# Altium footprint library con-weidmueller-sl35.PCBLIB: 184 footprints (part 7 of 12)
Each footprint in its own frame and in the unit in brackets; x right, y up, seen from the top. Pads: shape width x height; smd on the part's side, far side on the other; paste and mask are expansions set on the pad; w line width, h text height; cw(c..) or ccw(c..) is an arc to the next point about the centre after c.
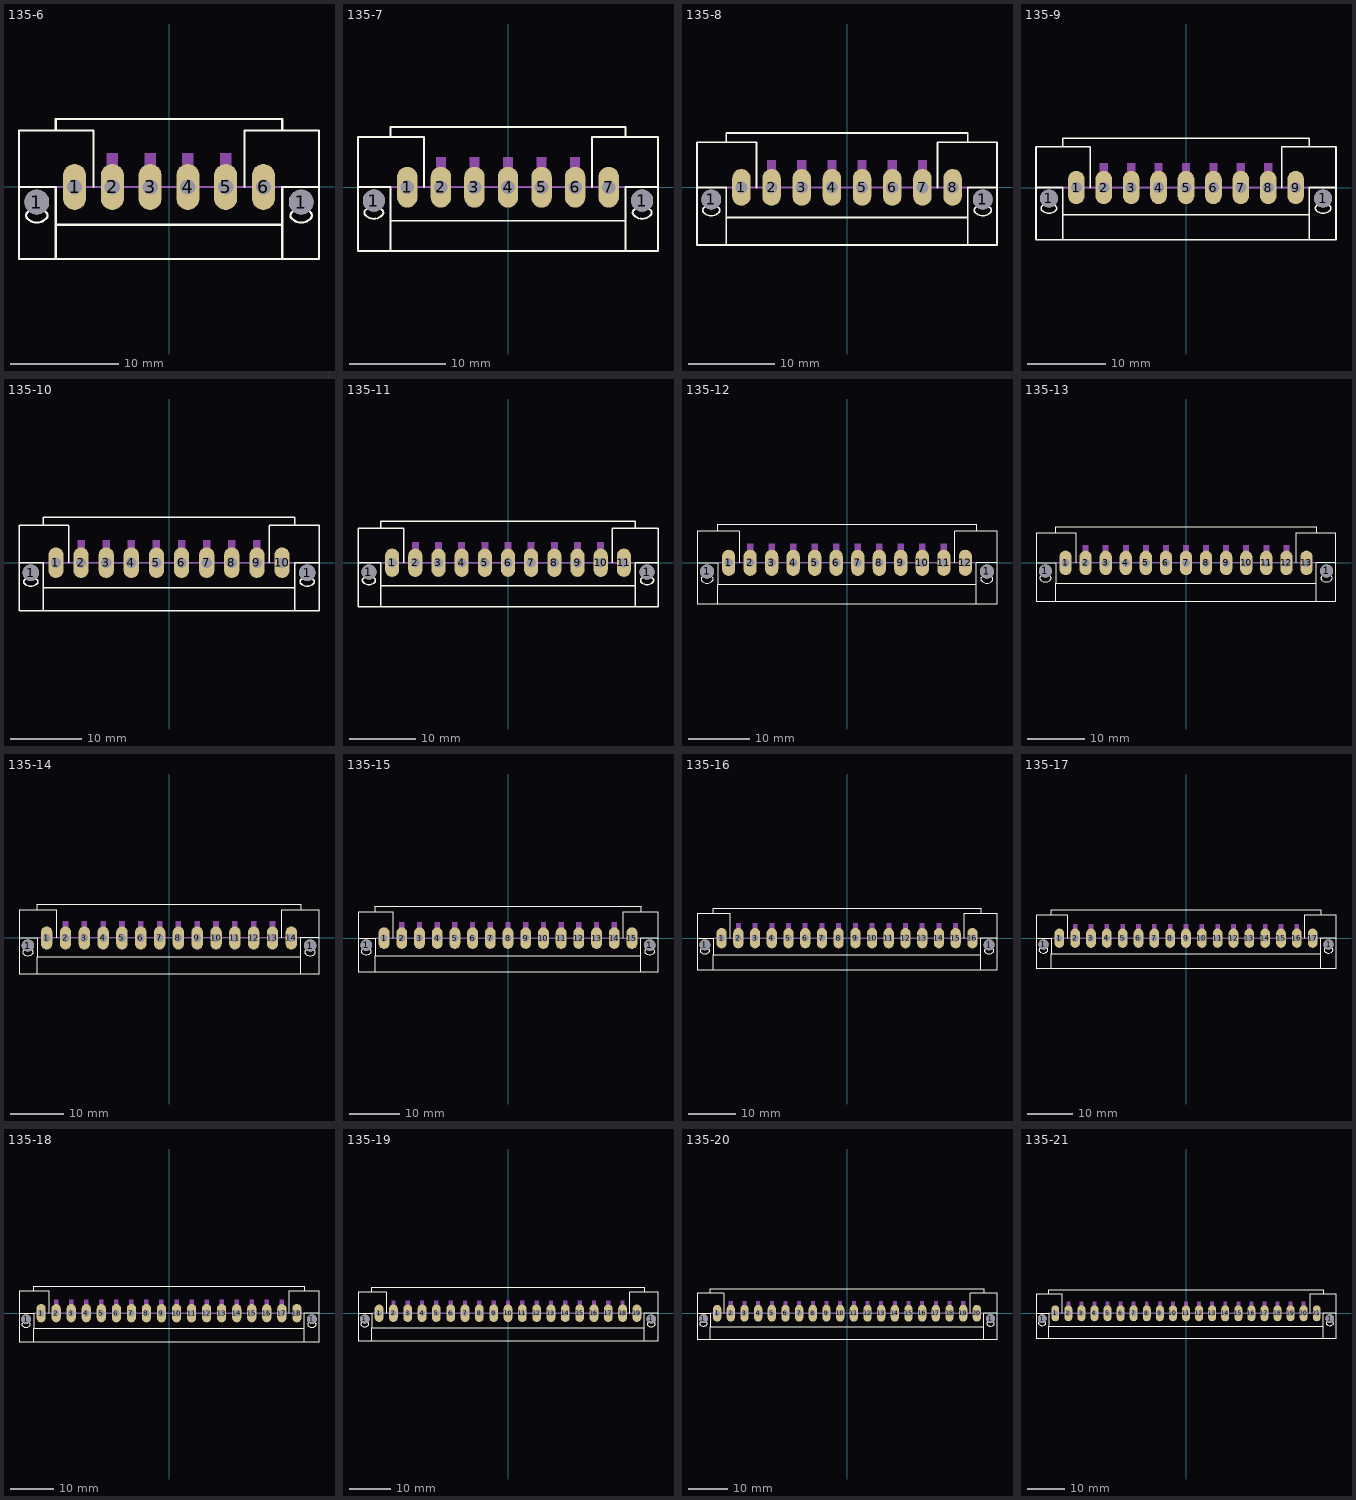
[diagram p6: the footprints below, top view; thin cyan lines are the x and y axes]

## 135-6 [mil]
pads (8):
  round 90.55 hole 90.55: 1(-482.28,-55.12) 1(482.28,-55.12)
  oval 84x168 hole 56: 1(-344.49,0) 2(-206.69,0) 3(-68.9,0) 4(68.9,0) 5(206.69,0) 6(344.49,0)
Top Overlay:
  lines w8: -547.24,204.72 -547.24,0 ; -547.24,205.71 -275.59,205.71 -275.59,204.72 ; -413.39,-261.81 -413.39,-137.8 ; -413.39,208.66 -413.39,248.03 413.39,248.03 413.39,208.66 ; -275.59,0 -275.59,203.74 ; 275.59,0 275.59,203.74 ; 275.59,204.72 275.59,205.71 547.24,205.71 ; 413.39,-261.81 413.39,-137.8 ; 547.24,204.72 547.24,0 ; -547.24,0 -547.24,-262.8 547.24,-262.8 547.24,0 ; -547.24,0 -413.39,0 -413.39,-137.8 ; -413.39,-137.8 413.39,-137.8 ; 413.39,-137.8 413.39,0 547.24,0 ; -515.75,-116.14 cw(c-505.91,-104.33) -515.75,-92.52 cw(c-482.29,-125.98) -448.82,-92.52 cw(c-458.66,-104.33) -448.82,-116.14 cw(c-482.29,-82.67) -515.75,-116.14 ; 448.82,-116.14 cw(c458.66,-104.33) 448.82,-92.52 cw(c482.29,-125.98) 515.75,-92.52 cw(c505.91,-104.33) 515.75,-116.14 cw(c482.29,-82.67) 448.82,-116.14
Mechanical 16:
  rectangle: -227.36,0 -186.02,124.02
  rectangle: -89.57,0 -48.23,124.02
  rectangle: 48.23,0 89.57,124.02
  rectangle: 186.02,0 227.36,124.02
  lines w8: -413.39,0 413.39,0

## 135-7 [mil]
pads (9):
  round 90.55 hole 90.55: 1(-551.18,-55.12) 1(551.18,-55.12)
  oval 84x168 hole 56: 1(-413.39,0) 2(-275.59,0) 3(-137.8,0) 4(0,0) 5(137.8,0) 6(275.59,0) 7(413.39,0)
Top Overlay:
  lines w8: -616.14,204.72 -616.14,0 ; -616.14,205.71 -344.49,205.71 -344.49,204.72 ; -482.28,-261.81 -482.28,-137.8 ; -482.28,208.66 -482.28,248.03 482.28,248.03 482.28,208.66 ; -344.49,0 -344.49,203.74 ; 344.49,0 344.49,203.74 ; 344.49,204.72 344.49,205.71 616.14,205.71 ; 482.28,-261.81 482.28,-137.8 ; 616.14,204.72 616.14,0 ; -616.14,0 -616.14,-262.8 616.14,-262.8 616.14,0 ; -616.14,0 -482.28,0 -482.28,-137.8 ; -482.28,-137.8 482.28,-137.8 ; 482.28,-137.8 482.28,0 616.14,0 ; -584.65,-116.14 cw(c-574.81,-104.33) -584.65,-92.52 cw(c-551.18,-125.98) -517.72,-92.52 cw(c-527.56,-104.33) -517.72,-116.14 cw(c-551.18,-82.67) -584.65,-116.14 ; 517.72,-116.14 cw(c527.56,-104.33) 517.72,-92.52 cw(c551.18,-125.98) 584.65,-92.52 cw(c574.81,-104.33) 584.65,-116.14 cw(c551.18,-82.67) 517.72,-116.14
Mechanical 16:
  rectangle: -296.26,0 -254.92,124.02
  rectangle: -158.46,0 -117.13,124.02
  rectangle: -20.67,0 20.67,124.02
  rectangle: 117.13,0 158.46,124.02
  rectangle: 254.92,0 296.26,124.02
  lines w8: -482.28,0 482.28,0

## 135-8 [mil]
pads (10):
  round 90.55 hole 90.55: 1(-620.08,-55.12) 1(620.08,-55.12)
  oval 84x168 hole 56: 1(-482.28,0) 2(-344.49,0) 3(-206.69,0) 4(-68.9,0) 5(68.9,0) 6(206.69,0) 7(344.49,0) 8(482.28,0)
Top Overlay:
  lines w8: -685.04,204.72 -685.04,0 ; -685.04,205.71 -413.39,205.71 -413.39,204.72 ; -551.18,-261.81 -551.18,-137.8 ; -551.18,208.66 -551.18,248.03 551.18,248.03 551.18,208.66 ; -413.39,0 -413.39,203.74 ; 413.39,0 413.39,203.74 ; 413.39,204.72 413.39,205.71 685.04,205.71 ; 551.18,-261.81 551.18,-137.8 ; 685.04,204.72 685.04,0 ; -685.04,0 -685.04,-262.8 685.04,-262.8 685.04,0 ; -685.04,0 -551.18,0 -551.18,-137.8 ; -551.18,-137.8 551.18,-137.8 ; 551.18,-137.8 551.18,0 685.04,0 ; -653.54,-116.14 cw(c-643.7,-104.33) -653.54,-92.52 cw(c-620.08,-125.98) -586.61,-92.52 cw(c-596.45,-104.33) -586.61,-116.14 cw(c-620.08,-82.67) -653.54,-116.14 ; 586.61,-116.14 cw(c596.45,-104.33) 586.61,-92.52 cw(c620.08,-125.98) 653.54,-92.52 cw(c643.7,-104.33) 653.54,-116.14 cw(c620.08,-82.67) 586.61,-116.14
Mechanical 16:
  rectangle: -365.16,0 -323.82,124.02
  rectangle: -227.36,0 -186.02,124.02
  rectangle: -89.57,0 -48.23,124.02
  rectangle: 48.23,0 89.57,124.02
  rectangle: 186.02,0 227.36,124.02
  rectangle: 323.82,0 365.16,124.02
  lines w8: -551.18,0 551.18,0

## 135-9 [mil]
pads (11):
  round 90.55 hole 90.55: 1(-688.98,-55.12) 1(688.98,-55.12)
  oval 84x168 hole 56: 1(-551.18,0) 2(-413.39,0) 3(-275.59,0) 4(-137.8,0) 5(0,0) 6(137.8,0) 7(275.59,0) 8(413.39,0) 9(551.18,0)
Top Overlay:
  lines w8: -753.94,204.72 -753.94,0 ; -753.94,205.71 -482.28,205.71 -482.28,204.72 ; -620.08,-261.81 -620.08,-137.8 ; -620.08,208.66 -620.08,248.03 620.08,248.03 620.08,208.66 ; -482.28,0 -482.28,203.74 ; 482.28,0 482.28,203.74 ; 482.28,204.72 482.28,205.71 753.94,205.71 ; 620.08,-261.81 620.08,-137.8 ; 753.94,204.72 753.94,0 ; -753.94,0 -753.94,-262.8 753.94,-262.8 753.94,0 ; -753.94,0 -620.08,0 -620.08,-137.8 ; -620.08,-137.8 620.08,-137.8 ; 620.08,-137.8 620.08,0 753.94,0 ; -722.44,-116.14 cw(c-712.6,-104.33) -722.44,-92.52 cw(c-688.98,-125.98) -655.51,-92.52 cw(c-665.35,-104.33) -655.51,-116.14 cw(c-688.98,-82.67) -722.44,-116.14 ; 655.51,-116.14 cw(c665.35,-104.33) 655.51,-92.52 cw(c688.98,-125.98) 722.44,-92.52 cw(c712.6,-104.33) 722.44,-116.14 cw(c688.98,-82.67) 655.51,-116.14
Mechanical 16:
  rectangle: -434.06,0 -392.72,124.02
  rectangle: -296.26,0 -254.92,124.02
  rectangle: -158.46,0 -117.13,124.02
  rectangle: -20.67,0 20.67,124.02
  rectangle: 117.13,0 158.46,124.02
  rectangle: 254.92,0 296.26,124.02
  rectangle: 392.72,0 434.06,124.02
  lines w8: -620.08,0 620.08,0

## 135-10 [mil]
pads (12):
  round 90.55 hole 90.55: 1(-757.87,-55.12) 1(757.87,-55.12)
  oval 84x168 hole 56: 1(-620.08,0) 2(-482.28,0) 3(-344.49,0) 4(-206.69,0) 5(-68.9,0) 6(68.9,0) 7(206.69,0) 8(344.49,0) 9(482.28,0) 10(620.08,0)
Top Overlay:
  lines w8: -822.83,204.72 -822.83,0 ; -822.83,205.71 -551.18,205.71 -551.18,204.72 ; -688.98,-261.81 -688.98,-137.8 ; -688.98,208.66 -688.98,248.03 688.98,248.03 688.98,208.66 ; -551.18,0 -551.18,203.74 ; 551.18,0 551.18,203.74 ; 551.18,204.72 551.18,205.71 822.83,205.71 ; 688.98,-261.81 688.98,-137.8 ; 822.83,204.72 822.83,0 ; -822.83,0 -822.83,-262.8 822.83,-262.8 822.83,0 ; -822.83,0 -688.98,0 -688.98,-137.8 ; -688.98,-137.8 688.98,-137.8 ; 688.98,-137.8 688.98,0 822.83,0 ; -791.34,-116.14 cw(c-781.5,-104.33) -791.34,-92.52 cw(c-757.88,-125.98) -724.41,-92.52 cw(c-734.25,-104.33) -724.41,-116.14 cw(c-757.88,-82.67) -791.34,-116.14 ; 724.41,-116.14 cw(c734.25,-104.33) 724.41,-92.52 cw(c757.88,-125.98) 791.34,-92.52 cw(c781.5,-104.33) 791.34,-116.14 cw(c757.88,-82.67) 724.41,-116.14
Mechanical 16:
  rectangle: -502.95,0 -461.61,124.02
  rectangle: -365.16,0 -323.82,124.02
  rectangle: -227.36,0 -186.02,124.02
  rectangle: -89.57,0 -48.23,124.02
  rectangle: 48.23,0 89.57,124.02
  rectangle: 186.02,0 227.36,124.02
  rectangle: 323.82,0 365.16,124.02
  rectangle: 461.61,0 502.95,124.02
  lines w8: -688.98,0 688.98,0

## 135-11 [mil]
pads (13):
  round 90.55 hole 90.55: 1(-826.77,-55.12) 1(826.77,-55.12)
  oval 84x168 hole 56: 1(-688.98,0) 2(-551.18,0) 3(-413.39,0) 4(-275.59,0) 5(-137.8,0) 6(0,0) 7(137.8,0) 8(275.59,0) 9(413.39,0) 10(551.18,0) 11(688.98,0)
Top Overlay:
  lines w8: -891.73,204.72 -891.73,0 ; -891.73,205.71 -620.08,205.71 -620.08,204.72 ; -757.87,-261.81 -757.87,-137.8 ; -757.87,208.66 -757.87,248.03 757.87,248.03 757.87,208.66 ; -620.08,0 -620.08,203.74 ; 620.08,0 620.08,203.74 ; 620.08,204.72 620.08,205.71 891.73,205.71 ; 757.87,-261.81 757.87,-137.8 ; 891.73,204.72 891.73,0 ; -891.73,0 -891.73,-262.8 891.73,-262.8 891.73,0 ; -891.73,0 -757.87,0 -757.87,-137.8 ; -757.87,-137.8 757.87,-137.8 ; 757.87,-137.8 757.87,0 891.73,0 ; -860.24,-116.14 cw(c-850.4,-104.33) -860.24,-92.52 cw(c-826.77,-125.98) -793.31,-92.52 cw(c-803.15,-104.33) -793.31,-116.14 cw(c-826.77,-82.67) -860.24,-116.14 ; 793.31,-116.14 cw(c803.15,-104.33) 793.31,-92.52 cw(c826.77,-125.98) 860.24,-92.52 cw(c850.4,-104.33) 860.24,-116.14 cw(c826.77,-82.67) 793.31,-116.14
Mechanical 16:
  rectangle: -571.85,0 -530.51,124.02
  rectangle: -434.06,0 -392.72,124.02
  rectangle: -296.26,0 -254.92,124.02
  rectangle: -158.46,0 -117.13,124.02
  rectangle: -20.67,0 20.67,124.02
  rectangle: 117.13,0 158.46,124.02
  rectangle: 254.92,0 296.26,124.02
  rectangle: 392.72,0 434.06,124.02
  rectangle: 530.51,0 571.85,124.02
  lines w8: -757.87,0 757.87,0

## 135-12 [mil]
pads (14):
  round 90.55 hole 90.55: 1(-895.67,-55.12) 1(895.67,-55.12)
  oval 84x168 hole 56: 1(-757.87,0) 2(-620.08,0) 3(-482.28,0) 4(-344.49,0) 5(-206.69,0) 6(-68.9,0) 7(68.9,0) 8(206.69,0) 9(344.49,0) 10(482.28,0) 11(620.08,0) 12(757.87,0)
Top Overlay:
  lines w8: -960.63,204.72 -960.63,0 ; -960.63,205.71 -688.98,205.71 -688.98,204.72 ; -826.77,-261.81 -826.77,-137.8 ; -826.77,208.66 -826.77,248.03 826.77,248.03 826.77,208.66 ; -688.98,0 -688.98,203.74 ; 688.98,0 688.98,203.74 ; 688.98,204.72 688.98,205.71 960.63,205.71 ; 826.77,-261.81 826.77,-137.8 ; 960.63,204.72 960.63,0 ; -960.63,0 -960.63,-262.8 960.63,-262.8 960.63,0 ; -960.63,0 -826.77,0 -826.77,-137.8 ; -826.77,-137.8 826.77,-137.8 ; 826.77,-137.8 826.77,0 960.63,0 ; -929.13,-116.14 cw(c-919.29,-104.33) -929.13,-92.52 cw(c-895.66,-125.98) -862.2,-92.52 cw(c-872.04,-104.33) -862.2,-116.14 cw(c-895.66,-82.67) -929.13,-116.14 ; 862.2,-116.14 cw(c872.04,-104.33) 862.2,-92.52 cw(c895.66,-125.98) 929.13,-92.52 cw(c919.29,-104.33) 929.13,-116.14 cw(c895.66,-82.67) 862.2,-116.14
Mechanical 16:
  rectangle: -640.75,0 -599.41,124.02
  rectangle: -502.95,0 -461.61,124.02
  rectangle: -365.16,0 -323.82,124.02
  rectangle: -227.36,0 -186.02,124.02
  rectangle: -89.57,0 -48.23,124.02
  rectangle: 48.23,0 89.57,124.02
  rectangle: 186.02,0 227.36,124.02
  rectangle: 323.82,0 365.16,124.02
  rectangle: 461.61,0 502.95,124.02
  rectangle: 599.41,0 640.75,124.02
  lines w8: -826.77,0 826.77,0

## 135-13 [mil]
pads (15):
  round 90.55 hole 90.55: 1(-964.57,-55.12) 1(964.57,-55.12)
  oval 84x168 hole 56: 1(-826.77,0) 2(-688.98,0) 3(-551.18,0) 4(-413.39,0) 5(-275.59,0) 6(-137.8,0) 7(0,0) 8(137.8,0) 9(275.59,0) 10(413.39,0) 11(551.18,0) 12(688.98,0) 13(826.77,0)
Top Overlay:
  lines w8: -1029.53,204.72 -1029.53,0 ; -1029.53,205.71 -757.87,205.71 -757.87,204.72 ; -895.67,-261.81 -895.67,-137.8 ; -895.67,208.66 -895.67,248.03 895.67,248.03 895.67,208.66 ; -757.87,0 -757.87,203.74 ; 757.87,0 757.87,203.74 ; 757.87,204.72 757.87,205.71 1029.53,205.71 ; 895.67,-261.81 895.67,-137.8 ; 1029.53,204.72 1029.53,0 ; -1029.53,0 -1029.53,-262.8 1029.53,-262.8 1029.53,0 ; -1029.53,0 -895.67,0 -895.67,-137.8 ; -895.67,-137.8 895.67,-137.8 ; 895.67,-137.8 895.67,0 1029.53,0 ; -998.03,-116.14 cw(c-988.19,-104.33) -998.03,-92.52 cw(c-964.57,-125.98) -931.1,-92.52 cw(c-940.94,-104.33) -931.1,-116.14 cw(c-964.57,-82.67) -998.03,-116.14 ; 931.1,-116.14 cw(c940.94,-104.33) 931.1,-92.52 cw(c964.57,-125.98) 998.03,-92.52 cw(c988.19,-104.33) 998.03,-116.14 cw(c964.57,-82.67) 931.1,-116.14
Mechanical 16:
  rectangle: -709.65,0 -668.31,124.02
  rectangle: -571.85,0 -530.51,124.02
  rectangle: -434.06,0 -392.72,124.02
  rectangle: -296.26,0 -254.92,124.02
  rectangle: -158.46,0 -117.13,124.02
  rectangle: -20.67,0 20.67,124.02
  rectangle: 117.13,0 158.46,124.02
  rectangle: 254.92,0 296.26,124.02
  rectangle: 392.72,0 434.06,124.02
  rectangle: 530.51,0 571.85,124.02
  rectangle: 668.31,0 709.65,124.02
  lines w8: -895.67,0 895.67,0

## 135-14 [mil]
pads (16):
  round 90.55 hole 90.55: 1(-1033.46,-55.12) 1(1033.46,-55.12)
  oval 84x168 hole 56: 1(-895.67,0) 2(-757.87,0) 3(-620.08,0) 4(-482.28,0) 5(-344.49,0) 6(-206.69,0) 7(-68.9,0) 8(68.9,0) 9(206.69,0) 10(344.49,0) 11(482.28,0) 12(620.08,0) 13(757.87,0) 14(895.67,0)
Top Overlay:
  lines w8: -1098.43,204.72 -1098.43,0 ; -1098.43,205.71 -826.77,205.71 -826.77,204.72 ; -964.57,-261.81 -964.57,-137.8 ; -964.57,208.66 -964.57,248.03 964.57,248.03 964.57,208.66 ; -826.77,0 -826.77,203.74 ; 826.77,0 826.77,203.74 ; 826.77,204.72 826.77,205.71 1098.43,205.71 ; 964.57,-261.81 964.57,-137.8 ; 1098.43,204.72 1098.43,0 ; -1098.43,0 -1098.43,-262.8 1098.43,-262.8 1098.43,0 ; -1098.43,0 -964.57,0 -964.57,-137.8 ; -964.57,-137.8 964.57,-137.8 ; 964.57,-137.8 964.57,0 1098.43,0 ; -1066.93,-116.14 cw(c-1057.09,-104.33) -1066.93,-92.52 cw(c-1033.46,-125.98) -1000,-92.52 cw(c-1009.84,-104.33) -1000,-116.14 cw(c-1033.46,-82.67) -1066.93,-116.14 ; 1000,-116.14 cw(c1009.84,-104.33) 1000,-92.52 cw(c1033.46,-125.98) 1066.93,-92.52 cw(c1057.09,-104.33) 1066.93,-116.14 cw(c1033.46,-82.67) 1000,-116.14
Mechanical 16:
  rectangle: -778.54,0 -737.2,124.02
  rectangle: -640.75,0 -599.41,124.02
  rectangle: -502.95,0 -461.61,124.02
  rectangle: -365.16,0 -323.82,124.02
  rectangle: -227.36,0 -186.02,124.02
  rectangle: -89.57,0 -48.23,124.02
  rectangle: 48.23,0 89.57,124.02
  rectangle: 186.02,0 227.36,124.02
  rectangle: 323.82,0 365.16,124.02
  rectangle: 461.61,0 502.95,124.02
  rectangle: 599.41,0 640.75,124.02
  rectangle: 737.2,0 778.54,124.02
  lines w8: -964.57,0 964.57,0

## 135-15 [mil]
pads (17):
  round 90.55 hole 90.55: 1(-1102.36,-55.12) 1(1102.36,-55.12)
  oval 84x168 hole 56: 1(-964.57,0) 2(-826.77,0) 3(-688.98,0) 4(-551.18,0) 5(-413.39,0) 6(-275.59,0) 7(-137.8,0) 8(0,0) 9(137.8,0) 10(275.59,0) 11(413.39,0) 12(551.18,0) 13(688.98,0) 14(826.77,0) 15(964.57,0)
Top Overlay:
  lines w8: -1167.32,204.72 -1167.32,0 ; -1167.32,205.71 -895.67,205.71 -895.67,204.72 ; -1033.46,-261.81 -1033.46,-137.8 ; -1033.46,208.66 -1033.46,248.03 1033.46,248.03 1033.46,208.66 ; -895.67,0 -895.67,203.74 ; 895.67,0 895.67,203.74 ; 895.67,204.72 895.67,205.71 1167.32,205.71 ; 1033.46,-261.81 1033.46,-137.8 ; 1167.32,204.72 1167.32,0 ; -1167.32,0 -1167.32,-262.8 1167.32,-262.8 1167.32,0 ; -1167.32,0 -1033.46,0 -1033.46,-137.8 ; -1033.46,-137.8 1033.46,-137.8 ; 1033.46,-137.8 1033.46,0 1167.32,0 ; -1135.83,-116.14 cw(c-1125.99,-104.33) -1135.83,-92.52 cw(c-1102.37,-125.98) -1068.9,-92.52 cw(c-1078.74,-104.33) -1068.9,-116.14 cw(c-1102.37,-82.67) -1135.83,-116.14 ; 1068.9,-116.14 cw(c1078.74,-104.33) 1068.9,-92.52 cw(c1102.37,-125.98) 1135.83,-92.52 cw(c1125.99,-104.33) 1135.83,-116.14 cw(c1102.37,-82.67) 1068.9,-116.14
Mechanical 16:
  rectangle: -847.44,0 -806.1,124.02
  rectangle: -709.65,0 -668.31,124.02
  rectangle: -571.85,0 -530.51,124.02
  rectangle: -434.06,0 -392.72,124.02
  rectangle: -296.26,0 -254.92,124.02
  rectangle: -158.46,0 -117.13,124.02
  rectangle: -20.67,0 20.67,124.02
  rectangle: 117.13,0 158.46,124.02
  rectangle: 254.92,0 296.26,124.02
  rectangle: 392.72,0 434.06,124.02
  rectangle: 530.51,0 571.85,124.02
  rectangle: 668.31,0 709.65,124.02
  rectangle: 806.1,0 847.44,124.02
  lines w8: -1033.46,0 1033.46,0

## 135-16 [mil]
pads (18):
  round 90.55 hole 90.55: 1(-1171.26,-55.12) 1(1171.26,-55.12)
  oval 84x168 hole 56: 1(-1033.46,0) 2(-895.67,0) 3(-757.87,0) 4(-620.08,0) 5(-482.28,0) 6(-344.49,0) 7(-206.69,0) 8(-68.9,0) 9(68.9,0) 10(206.69,0) 11(344.49,0) 12(482.28,0) 13(620.08,0) 14(757.87,0) 15(895.67,0) 16(1033.46,0)
Top Overlay:
  lines w8: -1236.22,204.72 -1236.22,0 ; -1236.22,205.71 -964.57,205.71 -964.57,204.72 ; -1102.36,-261.81 -1102.36,-137.8 ; -1102.36,208.66 -1102.36,248.03 1102.36,248.03 1102.36,208.66 ; -964.57,0 -964.57,203.74 ; 964.57,0 964.57,203.74 ; 964.57,204.72 964.57,205.71 1236.22,205.71 ; 1102.36,-261.81 1102.36,-137.8 ; 1236.22,204.72 1236.22,0 ; -1236.22,0 -1236.22,-262.8 1236.22,-262.8 1236.22,0 ; -1236.22,0 -1102.36,0 -1102.36,-137.8 ; -1102.36,-137.8 1102.36,-137.8 ; 1102.36,-137.8 1102.36,0 1236.22,0 ; -1204.72,-116.14 cw(c-1194.88,-104.33) -1204.72,-92.52 cw(c-1171.26,-125.98) -1137.8,-92.52 cw(c-1147.64,-104.33) -1137.8,-116.14 cw(c-1171.26,-82.68) -1204.72,-116.14 ; 1137.8,-116.14 cw(c1147.64,-104.33) 1137.8,-92.52 cw(c1171.26,-125.98) 1204.72,-92.52 cw(c1194.88,-104.33) 1204.72,-116.14 cw(c1171.26,-82.68) 1137.8,-116.14
Mechanical 16:
  rectangle: -916.34,0 -875,124.02
  rectangle: -778.54,0 -737.2,124.02
  rectangle: -640.75,0 -599.41,124.02
  rectangle: -502.95,0 -461.61,124.02
  rectangle: -365.16,0 -323.82,124.02
  rectangle: -227.36,0 -186.02,124.02
  rectangle: -89.57,0 -48.23,124.02
  rectangle: 48.23,0 89.57,124.02
  rectangle: 186.02,0 227.36,124.02
  rectangle: 323.82,0 365.16,124.02
  rectangle: 461.61,0 502.95,124.02
  rectangle: 599.41,0 640.75,124.02
  rectangle: 737.2,0 778.54,124.02
  rectangle: 875,0 916.34,124.02
  lines w8: -1102.36,0 1102.36,0

## 135-17 [mil]
pads (19):
  round 90.55 hole 90.55: 1(-1240.16,-55.12) 1(1240.16,-55.12)
  oval 84x168 hole 56: 1(-1102.36,0) 2(-964.57,0) 3(-826.77,0) 4(-688.98,0) 5(-551.18,0) 6(-413.39,0) 7(-275.59,0) 8(-137.8,0) 9(0,0) 10(137.8,0) 11(275.59,0) 12(413.39,0) 13(551.18,0) 14(688.98,0) 15(826.77,0) 16(964.57,0) 17(1102.36,0)
Top Overlay:
  lines w8: -1305.12,204.72 -1305.12,0 ; -1305.12,205.71 -1033.46,205.71 -1033.46,204.72 ; -1171.26,-261.81 -1171.26,-137.8 ; -1171.26,208.66 -1171.26,248.03 1171.26,248.03 1171.26,208.66 ; -1033.46,0 -1033.46,203.74 ; 1033.46,0 1033.46,203.74 ; 1033.46,204.72 1033.46,205.71 1305.12,205.71 ; 1171.26,-261.81 1171.26,-137.8 ; 1305.12,204.72 1305.12,0 ; -1305.12,0 -1305.12,-262.8 1305.12,-262.8 1305.12,0 ; -1305.12,0 -1171.26,0 -1171.26,-137.8 ; -1171.26,-137.8 1171.26,-137.8 ; 1171.26,-137.8 1171.26,0 1305.12,0 ; -1273.62,-116.14 cw(c-1263.78,-104.33) -1273.62,-92.52 cw(c-1240.15,-125.98) -1206.69,-92.52 cw(c-1216.53,-104.33) -1206.69,-116.14 cw(c-1240.15,-82.67) -1273.62,-116.14 ; 1206.69,-116.14 cw(c1216.53,-104.33) 1206.69,-92.52 cw(c1240.15,-125.98) 1273.62,-92.52 cw(c1263.78,-104.33) 1273.62,-116.14 cw(c1240.15,-82.67) 1206.69,-116.14
Mechanical 16:
  rectangle: -985.24,0 -943.9,124.02
  rectangle: -847.44,0 -806.1,124.02
  rectangle: -709.65,0 -668.31,124.02
  rectangle: -571.85,0 -530.51,124.02
  rectangle: -434.06,0 -392.72,124.02
  rectangle: -296.26,0 -254.92,124.02
  rectangle: -158.46,0 -117.13,124.02
  rectangle: -20.67,0 20.67,124.02
  rectangle: 117.13,0 158.46,124.02
  rectangle: 254.92,0 296.26,124.02
  rectangle: 392.72,0 434.06,124.02
  rectangle: 530.51,0 571.85,124.02
  rectangle: 668.31,0 709.65,124.02
  rectangle: 806.1,0 847.44,124.02
  rectangle: 943.9,0 985.24,124.02
  lines w8: -1171.26,0 1171.26,0

## 135-18 [mil]
pads (20):
  round 90.55 hole 90.55: 1(-1309.06,-55.12) 1(1309.06,-55.12)
  oval 84x168 hole 56: 1(-1171.26,0) 2(-1033.46,0) 3(-895.67,0) 4(-757.87,0) 5(-620.08,0) 6(-482.28,0) 7(-344.49,0) 8(-206.69,0) 9(-68.9,0) 10(68.9,0) 11(206.69,0) 12(344.49,0) 13(482.28,0) 14(620.08,0) 15(757.87,0) 16(895.67,0) 17(1033.46,0) 18(1171.26,0)
Top Overlay:
  lines w8: -1374.02,204.72 -1374.02,0 ; -1374.02,205.71 -1102.36,205.71 -1102.36,204.72 ; -1240.16,-261.81 -1240.16,-137.8 ; -1240.16,208.66 -1240.16,248.03 1240.16,248.03 1240.16,208.66 ; -1102.36,0 -1102.36,203.74 ; 1102.36,0 1102.36,203.74 ; 1102.36,204.72 1102.36,205.71 1374.02,205.71 ; 1240.16,-261.81 1240.16,-137.8 ; 1374.02,204.72 1374.02,0 ; -1374.02,0 -1374.02,-262.8 1374.02,-262.8 1374.02,0 ; -1374.02,0 -1240.16,0 -1240.16,-137.8 ; -1240.16,-137.8 1240.16,-137.8 ; 1240.16,-137.8 1240.16,0 1374.02,0 ; -1342.52,-116.14 cw(c-1332.68,-104.33) -1342.52,-92.52 cw(c-1309.06,-125.98) -1275.59,-92.52 cw(c-1285.43,-104.33) -1275.59,-116.14 cw(c-1309.06,-82.67) -1342.52,-116.14 ; 1275.59,-116.14 cw(c1285.43,-104.33) 1275.59,-92.52 cw(c1309.06,-125.98) 1342.52,-92.52 cw(c1332.68,-104.33) 1342.52,-116.14 cw(c1309.06,-82.67) 1275.59,-116.14
Mechanical 16:
  rectangle: -1054.13,0 -1012.8,124.02
  rectangle: -916.34,0 -875,124.02
  rectangle: -778.54,0 -737.2,124.02
  rectangle: -640.75,0 -599.41,124.02
  rectangle: -502.95,0 -461.61,124.02
  rectangle: -365.16,0 -323.82,124.02
  rectangle: -227.36,0 -186.02,124.02
  rectangle: -89.57,0 -48.23,124.02
  rectangle: 48.23,0 89.57,124.02
  rectangle: 186.02,0 227.36,124.02
  rectangle: 323.82,0 365.16,124.02
  rectangle: 461.61,0 502.95,124.02
  rectangle: 599.41,0 640.75,124.02
  rectangle: 737.2,0 778.54,124.02
  rectangle: 875,0 916.34,124.02
  rectangle: 1012.8,0 1054.13,124.02
  lines w8: -1240.16,0 1240.16,0

## 135-19 [mil]
pads (21):
  round 90.55 hole 90.55: 1(-1377.95,-55.12) 1(1377.95,-55.12)
  oval 84x168 hole 56: 1(-1240.16,0) 2(-1102.36,0) 3(-964.57,0) 4(-826.77,0) 5(-688.98,0) 6(-551.18,0) 7(-413.39,0) 8(-275.59,0) 9(-137.8,0) 10(0,0) 11(137.8,0) 12(275.59,0) 13(413.39,0) 14(551.18,0) 15(688.98,0) 16(826.77,0) 17(964.57,0) 18(1102.36,0) 19(1240.16,0)
Top Overlay:
  lines w8: -1442.91,204.72 -1442.91,0 ; -1442.91,205.71 -1171.26,205.71 -1171.26,204.72 ; -1309.06,-261.81 -1309.06,-137.8 ; -1309.06,208.66 -1309.06,248.03 1309.06,248.03 1309.06,208.66 ; -1171.26,0 -1171.26,203.74 ; 1171.26,0 1171.26,203.74 ; 1171.26,204.72 1171.26,205.71 1442.91,205.71 ; 1309.06,-261.81 1309.06,-137.8 ; 1442.91,204.72 1442.91,0 ; -1442.91,0 -1442.91,-262.8 1442.91,-262.8 1442.91,0 ; -1442.91,0 -1309.06,0 -1309.06,-137.8 ; -1309.06,-137.8 1309.06,-137.8 ; 1309.06,-137.8 1309.06,0 1442.91,0 ; -1411.42,-116.14 cw(c-1401.58,-104.33) -1411.42,-92.52 cw(c-1377.95,-125.98) -1344.49,-92.52 cw(c-1354.33,-104.33) -1344.49,-116.14 cw(c-1377.95,-82.67) -1411.42,-116.14 ; 1344.49,-116.14 cw(c1354.33,-104.33) 1344.49,-92.52 cw(c1377.95,-125.98) 1411.42,-92.52 cw(c1401.58,-104.33) 1411.42,-116.14 cw(c1377.95,-82.67) 1344.49,-116.14
Mechanical 16:
  rectangle: -1123.03,0 -1081.69,124.02
  rectangle: -985.24,0 -943.9,124.02
  rectangle: -847.44,0 -806.1,124.02
  rectangle: -709.65,0 -668.31,124.02
  rectangle: -571.85,0 -530.51,124.02
  rectangle: -434.06,0 -392.72,124.02
  rectangle: -296.26,0 -254.92,124.02
  rectangle: -158.46,0 -117.13,124.02
  rectangle: -20.67,0 20.67,124.02
  rectangle: 117.13,0 158.46,124.02
  rectangle: 254.92,0 296.26,124.02
  rectangle: 392.72,0 434.06,124.02
  rectangle: 530.51,0 571.85,124.02
  rectangle: 668.31,0 709.65,124.02
  rectangle: 806.1,0 847.44,124.02
  rectangle: 943.9,0 985.24,124.02
  rectangle: 1081.69,0 1123.03,124.02
  lines w8: -1309.06,0 1309.06,0

## 135-20 [mil]
pads (22):
  round 90.55 hole 90.55: 1(-1446.85,-55.12) 1(1446.85,-55.12)
  oval 84x168 hole 56: 1(-1309.06,0) 2(-1171.26,0) 3(-1033.46,0) 4(-895.67,0) 5(-757.87,0) 6(-620.08,0) 7(-482.28,0) 8(-344.49,0) 9(-206.69,0) 10(-68.9,0) 11(68.9,0) 12(206.69,0) 13(344.49,0) 14(482.28,0) 15(620.08,0) 16(757.87,0) 17(895.67,0) 18(1033.46,0) 19(1171.26,0) 20(1309.06,0)
Top Overlay:
  lines w8: -1511.81,204.72 -1511.81,0 ; -1511.81,205.71 -1240.16,205.71 -1240.16,204.72 ; -1377.95,-261.81 -1377.95,-137.8 ; -1377.95,208.66 -1377.95,248.03 1377.95,248.03 1377.95,208.66 ; -1240.16,0 -1240.16,203.74 ; 1240.16,0 1240.16,203.74 ; 1240.16,204.72 1240.16,205.71 1511.81,205.71 ; 1377.95,-261.81 1377.95,-137.8 ; 1511.81,204.72 1511.81,0 ; -1511.81,0 -1511.81,-262.8 1511.81,-262.8 1511.81,0 ; -1511.81,0 -1377.95,0 -1377.95,-137.8 ; -1377.95,-137.8 1377.95,-137.8 ; 1377.95,-137.8 1377.95,0 1511.81,0 ; -1480.31,-116.14 cw(c-1470.47,-104.33) -1480.31,-92.52 cw(c-1446.85,-125.98) -1413.39,-92.52 cw(c-1423.23,-104.33) -1413.39,-116.14 cw(c-1446.85,-82.68) -1480.31,-116.14 ; 1413.39,-116.14 cw(c1423.23,-104.33) 1413.39,-92.52 cw(c1446.85,-125.98) 1480.31,-92.52 cw(c1470.47,-104.33) 1480.31,-116.14 cw(c1446.85,-82.68) 1413.39,-116.14
Mechanical 16:
  rectangle: -1191.93,0 -1150.59,124.02
  rectangle: -1054.13,0 -1012.8,124.02
  rectangle: -916.34,0 -875,124.02
  rectangle: -778.54,0 -737.2,124.02
  rectangle: -640.75,0 -599.41,124.02
  rectangle: -502.95,0 -461.61,124.02
  rectangle: -365.16,0 -323.82,124.02
  rectangle: -227.36,0 -186.02,124.02
  rectangle: -89.57,0 -48.23,124.02
  rectangle: 48.23,0 89.57,124.02
  rectangle: 186.02,0 227.36,124.02
  rectangle: 323.82,0 365.16,124.02
  rectangle: 461.61,0 502.95,124.02
  rectangle: 599.41,0 640.75,124.02
  rectangle: 737.2,0 778.54,124.02
  rectangle: 875,0 916.34,124.02
  rectangle: 1012.8,0 1054.13,124.02
  rectangle: 1150.59,0 1191.93,124.02
  lines w8: -1377.95,0 1377.95,0

## 135-21 [mil]
pads (23):
  round 90.55 hole 90.55: 1(-1515.75,-55.12) 1(1515.75,-55.12)
  oval 84x168 hole 56: 1(-1377.95,0) 2(-1240.16,0) 3(-1102.36,0) 4(-964.57,0) 5(-826.77,0) 6(-688.98,0) 7(-551.18,0) 8(-413.39,0) 9(-275.59,0) 10(-137.8,0) 11(0,0) 12(137.8,0) 13(275.59,0) 14(413.39,0) 15(551.18,0) 16(688.98,0) 17(826.77,0) 18(964.57,0) 19(1102.36,0) 20(1240.16,0) 21(1377.95,0)
Top Overlay:
  lines w8: -1580.71,204.72 -1580.71,0 ; -1580.71,205.71 -1309.06,205.71 -1309.06,204.72 ; -1446.85,-261.81 -1446.85,-137.8 ; -1446.85,208.66 -1446.85,248.03 1446.85,248.03 1446.85,208.66 ; -1309.06,0 -1309.06,203.74 ; 1309.06,0 1309.06,203.74 ; 1309.06,204.72 1309.06,205.71 1580.71,205.71 ; 1446.85,-261.81 1446.85,-137.8 ; 1580.71,204.72 1580.71,0 ; -1580.71,0 -1580.71,-262.8 1580.71,-262.8 1580.71,0 ; -1580.71,0 -1446.85,0 -1446.85,-137.8 ; -1446.85,-137.8 1446.85,-137.8 ; 1446.85,-137.8 1446.85,0 1580.71,0 ; -1549.21,-116.14 cw(c-1539.37,-104.33) -1549.21,-92.52 cw(c-1515.74,-125.98) -1482.28,-92.52 cw(c-1492.12,-104.33) -1482.28,-116.14 cw(c-1515.74,-82.67) -1549.21,-116.14 ; 1482.28,-116.14 cw(c1492.12,-104.33) 1482.28,-92.52 cw(c1515.74,-125.98) 1549.21,-92.52 cw(c1539.37,-104.33) 1549.21,-116.14 cw(c1515.74,-82.67) 1482.28,-116.14
Mechanical 16:
  rectangle: -1260.83,0 -1219.49,124.02
  rectangle: -1123.03,0 -1081.69,124.02
  rectangle: -985.24,0 -943.9,124.02
  rectangle: -847.44,0 -806.1,124.02
  rectangle: -709.65,0 -668.31,124.02
  rectangle: -571.85,0 -530.51,124.02
  rectangle: -434.06,0 -392.72,124.02
  rectangle: -296.26,0 -254.92,124.02
  rectangle: -158.46,0 -117.13,124.02
  rectangle: -20.67,0 20.67,124.02
  rectangle: 117.13,0 158.46,124.02
  rectangle: 254.92,0 296.26,124.02
  rectangle: 392.72,0 434.06,124.02
  rectangle: 530.51,0 571.85,124.02
  rectangle: 668.31,0 709.65,124.02
  rectangle: 806.1,0 847.44,124.02
  rectangle: 943.9,0 985.24,124.02
  rectangle: 1081.69,0 1123.03,124.02
  rectangle: 1219.49,0 1260.83,124.02
  lines w8: -1446.85,0 1446.85,0